# EAGLE library part SV74LV4052APWR (library LM4880)
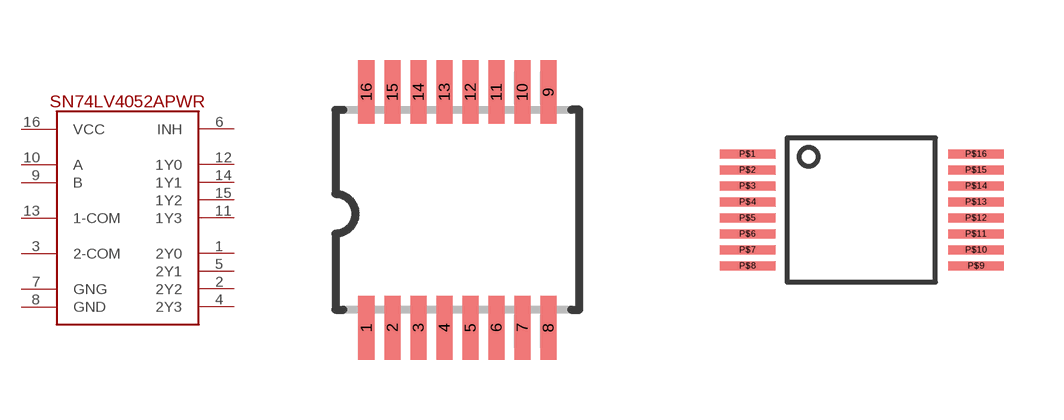
[diagram p78: symbol with the pads of TSSOP16; footprints TSSOP16, TVSOP-16]

Designator prefix -

## SV74LV4052APWR  [TSSOP16]
1  2Y0
2  2Y2
3  2-COM
4  2Y3
5  2Y1
6  INH
7  GNG
8  GND
9  B
10  A
11  1Y3
12  1Y0
13  1-COM
14  1Y1
15  1Y2
16  VCC

## SV74LV4052APWR2  [TVSOP-16]
P$1  2Y0
P$2  2Y2
P$3  2-COM
P$4  2Y3
P$5  2Y1
P$6  INH
P$7  GNG
P$8  GND
P$9  B
P$10  A
P$11  1Y3
P$12  1Y0
P$13  1-COM
P$14  1Y1
P$15  1Y2
P$16  VCC

## Footprint TSSOP16 (pad centres in mm)
TSOP16 thin small outline package
smd 0.4 x 1.6: 1 -2.225,-2.85; 2 -1.575,-2.85; 3 -0.925,-2.85; 4 -0.275,-2.85; 5 0.375,-2.85; 6 1.025,-2.85; 7 1.675,-2.85; 8 2.325,-2.85; 9 2.325,3.05; 10 1.675,3.05; 11 1.025,3.05; 12 0.375,3.05; 13 -0.275,3.05; 14 -0.925,3.05; 15 -1.575,3.05; 16 -2.225,3.05

## Footprint TVSOP-16 (pad centres in mm)
smd 1.397 x 0.23: P$1 0,0; P$2 0,-0.4; P$3 0,-0.8; P$4 0,-1.2; P$5 0,-1.6; P$6 0,-2; P$7 0,-2.4; P$8 0,-2.8; P$9 5.715,-2.8; P$10 5.715,-2.4; P$11 5.715,-2; P$12 5.715,-1.6; P$13 5.715,-1.2; P$14 5.715,-0.8; P$15 5.715,-0.4; P$16 5.715,0